# Altium footprint library 691 327 310 0xx.PcbLib: 6 footprints
Each footprint in its own frame and in the unit in brackets; x right, y up, seen from the top. Pads: shape width x height; smd on the part's side, far side on the other; paste and mask are expansions set on the pad; w line width, h text height; cw(c..) or ccw(c..) is an arc to the next point about the centre after c.
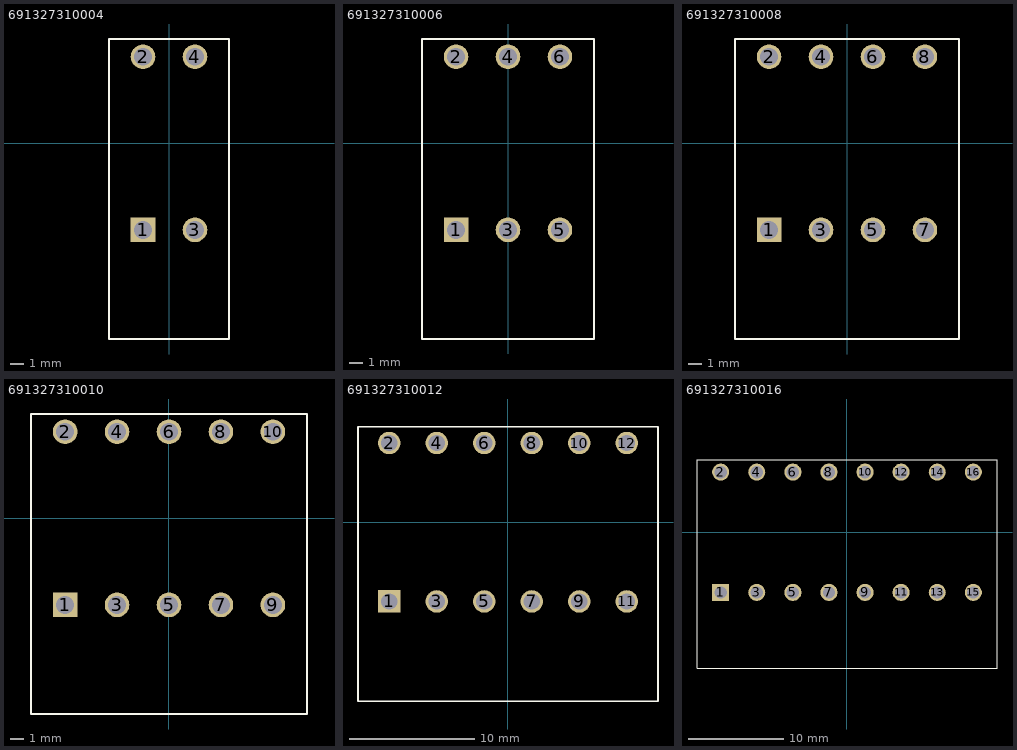
[diagram p0: the footprints below, top view; thin cyan lines are the x and y axes]

## 691327310004 [mm] "3,81mm - PCB - Dual row - Horizontal - 04p"
height 22.7
pads (4):
  rect 1.8x1.8 hole 1.3: 1(-1.905,-6.35)
  round 1.8 hole 1.3: 2(-1.905,6.35) 3(1.905,-6.35) 4(1.905,6.35)
Top Overlay:
  lines w0.127: -4.405,-14.35 4.405,-14.35 4.405,7.65 -4.405,7.65 -4.405,-14.35
3D body: height 22.7, standoff -3.5, extent -4.405,-14.35 4.405,7.65

## 691327310006 [mm] "3,81mm - PCB - Dual row - Horizontal - 06p"
height 22.7
pads (6):
  rect 1.8x1.8 hole 1.3: 1(-3.81,-6.35)
  round 1.8 hole 1.3: 2(-3.81,6.35) 3(0,-6.35) 4(0,6.35) 5(3.81,-6.35) 6(3.81,6.35)
Top Overlay:
  lines w0.127: -2.5,-14.35 6.31,-14.35 6.31,7.65 -2.5,7.65 ; 2.5,-14.35 -6.31,-14.35 -6.31,7.65 2.5,7.65
3D body: height 22.7, standoff -3.5, extent -6.31,-14.35 6.31,7.65

## 691327310008 [mm] "3,81mm - PCB - Dual row - Horizontal - 08p"
height 22.7
pads (8):
  rect 1.8x1.8 hole 1.3: 1(-5.715,-6.35)
  round 1.8 hole 1.3: 2(-5.715,6.35) 3(-1.905,-6.35) 4(-1.905,6.35) 5(1.905,-6.35) 6(1.905,6.35) 7(5.715,-6.35) 8(5.715,6.35)
Top Overlay:
  lines w0.127: -0.595,-14.35 8.215,-14.35 8.215,7.65 -0.595,7.65 ; 0.595,-14.35 -8.215,-14.35 -8.215,7.65 0.595,7.65
3D body: height 22.7, standoff -3.5, extent -8.215,-14.35 8.215,7.65

## 691327310010 [mm] "3,81mm - PCB - Dual row - Horizontal - 10p"
height 22.7
pads (10):
  rect 1.8x1.8 hole 1.3: 1(-7.62,-6.35)
  round 1.8 hole 1.3: 2(-7.62,6.35) 3(-3.81,-6.35) 4(-3.81,6.35) 5(0,-6.35) 6(0,6.35) 7(3.81,-6.35) 8(3.81,6.35) 9(7.62,-6.35) 10(7.62,6.35)
Top Overlay:
  lines w0.127: -6.31,-14.35 2.5,-14.35 ; -6.31,7.65 2.5,7.65 ; -1.31,-14.35 -10.12,-14.35 -10.12,7.65 -1.31,7.65 ; 1.31,-14.35 10.12,-14.35 10.12,7.65 1.31,7.65
3D body: height 22.7, standoff -3.5, extent -10.12,-14.35 10.12,7.65

## 691327310012 [mm] "3,81mm - PCB - Dual row - Horizontal - 12p"
height 22.7
pads (12):
  rect 1.8x1.8 hole 1.3: 1(-9.525,-6.35)
  round 1.8 hole 1.3: 2(-9.525,6.35) 3(-5.715,-6.35) 4(-5.715,6.35) 5(-1.905,-6.35) 6(-1.905,6.35) 7(1.905,-6.35) 8(1.905,6.35) 9(5.715,-6.35) 10(5.715,6.35) 11(9.525,-6.35) 12(9.525,6.35)
Top Overlay:
  lines w0.127: -4.405,-14.35 4.405,-14.35 ; -4.405,7.65 4.405,7.65 ; -3.215,-14.35 -12.025,-14.35 -12.025,7.65 -3.215,7.65 ; 3.215,-14.35 12.025,-14.35 12.025,7.65 3.215,7.65
3D body: height 22.7, standoff -3.5, extent -12.025,-14.35 12.025,7.65

## 691327310016 [mm] "3,81mm - PCB - Dual row - Horizontal - 16p"
height 22.7
pads (16):
  rect 1.8x1.8 hole 1.3: 1(-13.335,-6.35)
  round 1.8 hole 1.3: 2(-13.335,6.35) 3(-9.525,-6.35) 4(-9.525,6.35) 5(-5.715,-6.35) 6(-5.715,6.35) 7(-1.905,-6.35) 8(-1.905,6.35) 9(1.905,-6.35) 10(1.905,6.35) 11(5.715,-6.35) 12(5.715,6.35) 13(9.525,-6.35) 14(9.525,6.35) 15(13.335,-6.35) 16(13.335,6.35)
Top Overlay:
  lines w0.127: -8.215,-14.35 0.595,-14.35 ; -8.215,7.65 0.595,7.65 ; -7.025,-14.35 -15.835,-14.35 -15.835,7.65 -7.025,7.65 ; -0.595,-14.35 8.215,-14.35 ; -0.595,7.65 8.215,7.65 ; 7.025,-14.35 15.835,-14.35 15.835,7.65 7.025,7.65
3D body: height 22.7, standoff -3.5, extent -15.835,-14.35 15.835,7.65